# Altium footprint library NEUTRIK_NRJ6HM-1.PcbLib: 1 footprints
Each footprint in its own frame and in the unit in brackets; x right, y up, seen from the top. Pads: shape width x height; smd on the part's side, far side on the other; paste and mask are expansions set on the pad; w line width, h text height; cw(c..) or ccw(c..) is an arc to the next point about the centre after c.
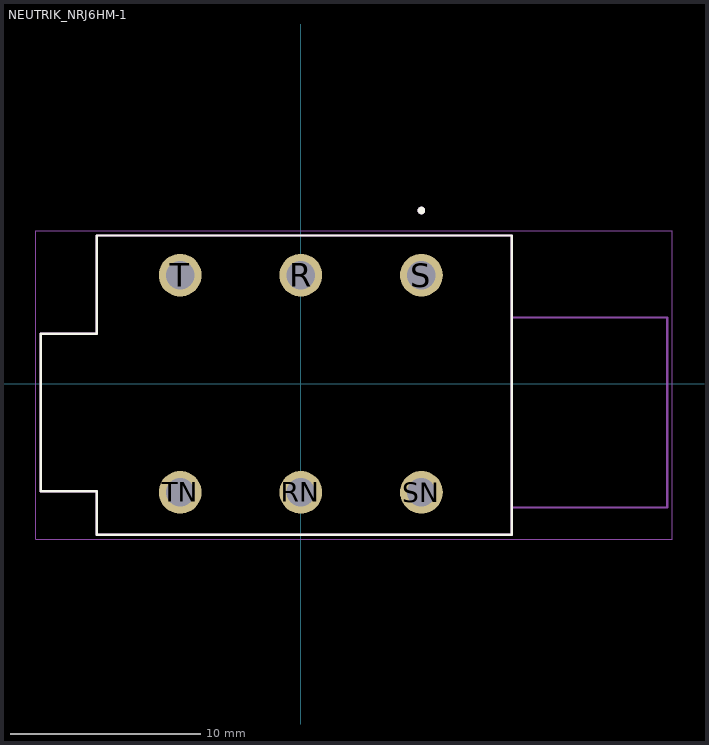
[diagram p0: the footprint, top view; thin cyan lines are the x and y axes]

## NEUTRIK_NRJ6HM-1 [mm]
height 12.7
pads (6):
  round 2.25 hole 1.5: R(0,5.715) RN(0,-5.715) S(6.35,5.715) SN(6.35,-5.715) T(-6.35,5.715) TN(-6.35,-5.715)
Top Overlay:
  circle w0.2: c6.35,9.12 r0.1
  lines w0.127: -13.7,-5.665 -10.75,-5.665 -10.75,-7.945 11.1,-7.945 11.1,7.805 -10.75,7.805 -10.75,2.635 -13.7,2.635 -13.7,-5.665
Mechanical 13:
  circle w0.2: c6.35,9.12 r0.1
  lines w0.127: 11.1,-6.515 11.1,-7.945 -10.75,-7.945 -10.75,-5.665 -13.7,-5.665 -13.7,2.635 -10.75,2.635 -10.75,7.805 11.1,7.805 11.1,3.485 ; 11.1,-6.515 19.3,-6.515 19.3,3.485 11.1,3.485 ; 11.1,-6.515 11.1,3.485
Mechanical 15:
  lines w0.05: -13.95,-8.195 -13.95,8.055 19.55,8.055 19.55,-8.195 -13.95,-8.195
3D body "step_temp.STEP": height 12.7, standoff -4, extent -6.43,-8.2 9.32,24.8